# EAGLE library part LMK03318RHSR (library isg-clock-generator)
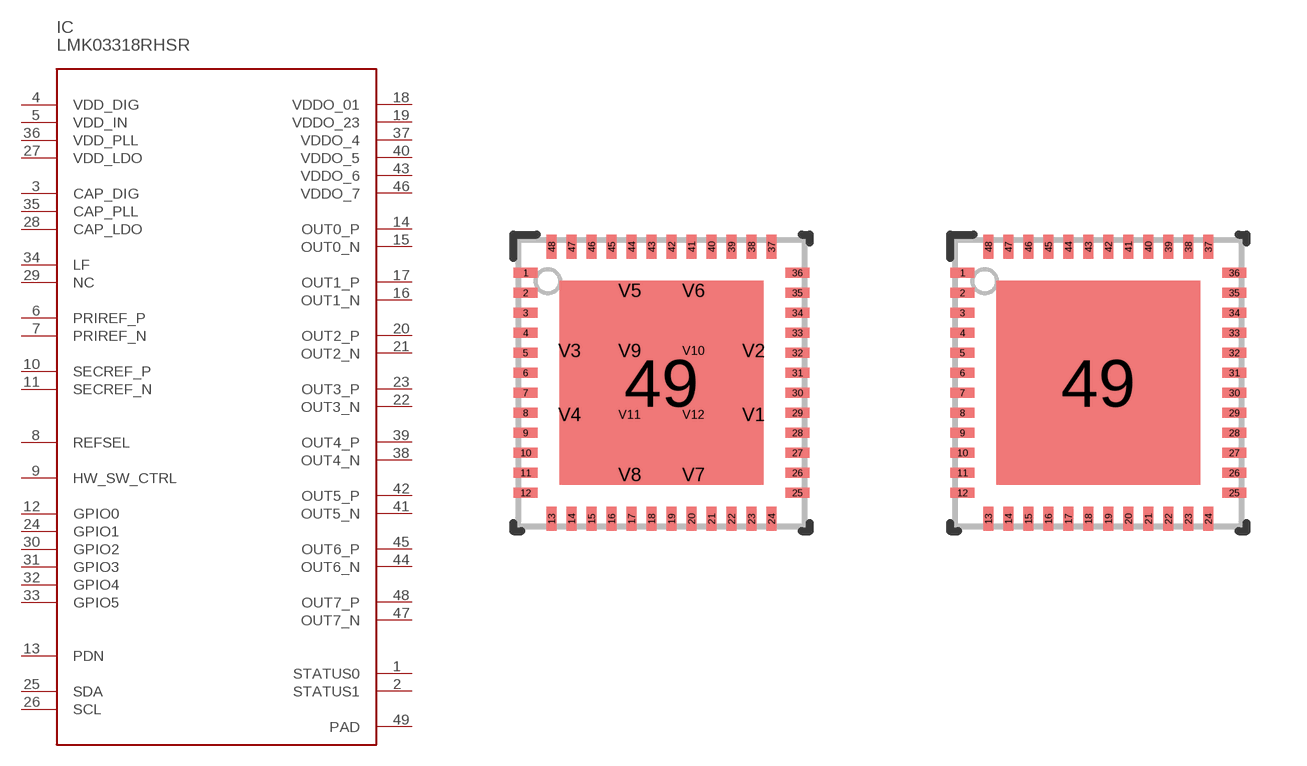
[diagram p0: symbol with the pads of RHS0048A; footprints RHS0048A, RHS0048A_NV]

Designator prefix IC

## LMK03318RHSR  [RHS0048A]
1  STATUS0  out
2  STATUS1  out
3  CAP_DIG  pas
4  VDD_DIG  pwr
5  VDD_IN  pwr
6  PRIREF_P  in
7  PRIREF_N  in
8  REFSEL  in
9  HW_SW_CTRL  in
10  SECREF_P  in
11  SECREF_N  in
12  GPIO0
13  PDN  in
14  OUT0_P  out
15  OUT0_N  out
16  OUT1_N  out
17  OUT1_P  out
18  VDDO_01  pwr
19  VDDO_23  pwr
20  OUT2_P  out
21  OUT2_N  out
22  OUT3_N  out
23  OUT3_P  out
24  GPIO1
25  SDA
26  SCL
27  VDD_LDO  pwr
28  CAP_LDO  pas
29  NC  pas
30  GPIO2
31  GPIO3
32  GPIO4
33  GPIO5
34  LF  pas
35  CAP_PLL  pas
36  VDD_PLL  pwr
37  VDDO_4  pwr
38  OUT4_N  out
39  OUT4_P  out
40  VDDO_5  pwr
41  OUT5_N  out
42  OUT5_P  out
43  VDDO_6  pwr
44  OUT6_N  out
45  OUT6_P  out
46  VDDO_7  pwr
47  OUT7_N  out
48  OUT7_P  out
49  PAD  pwr

## LMK03318RHSRRHS0048A_NV (VALUE: LMK03318RHSR)  [RHS0048A_NV]
Pads as for RHS0048A

## Footprint RHS0048A (pad centres in mm)
smd 0.6 x 0.25: 1 -3.4,2.75; 2 -3.4,2.25; 3 -3.4,1.75; 4 -3.4,1.25; 5 -3.4,0.75; 6 -3.4,0.25; 7 -3.4,-0.25; 8 -3.4,-0.75; 9 -3.4,-1.25; 10 -3.4,-1.75; 11 -3.4,-2.25; 12 -3.4,-2.75; 25 3.4,-2.75; 26 3.4,-2.25; 27 3.4,-1.75; 28 3.4,-1.25; 29 3.4,-0.75; 30 3.4,-0.25; 31 3.4,0.25; 32 3.4,0.75; 33 3.4,1.25; 34 3.4,1.75; 35 3.4,2.25; 36 3.4,2.75
smd 0.25 x 0.6: 13 -2.75,-3.4; 14 -2.25,-3.4; 15 -1.75,-3.4; 16 -1.25,-3.4; 17 -0.75,-3.4; 18 -0.25,-3.4; 19 0.25,-3.4; 20 0.75,-3.4; 21 1.25,-3.4; 22 1.75,-3.4; 23 2.25,-3.4; 24 2.75,-3.4; 37 2.75,3.4; 38 2.25,3.4; 39 1.75,3.4; 40 1.25,3.4; 41 0.75,3.4; 42 0.25,3.4; 43 -0.25,3.4; 44 -0.75,3.4; 45 -1.25,3.4; 46 -1.75,3.4; 47 -2.25,3.4; 48 -2.75,3.4
smd 5.1 x 5.1: 49 0,0
smd 0.5 x 0.5: V1 2.301,-0.799; V2 2.301,0.799; V3 -2.301,0.799; V4 -2.301,-0.799; V5 -0.799,2.301; V6 0.799,2.301; V7 0.799,-2.301; V8 -0.799,-2.301; V9 -0.799,0.799; V10 0.799,0.799; V11 -0.799,-0.799; V12 0.799,-0.799

## Footprint RHS0048A_NV (pad centres in mm)
smd 0.6 x 0.25: 1 -3.4,2.75; 2 -3.4,2.25; 3 -3.4,1.75; 4 -3.4,1.25; 5 -3.4,0.75; 6 -3.4,0.25; 7 -3.4,-0.25; 8 -3.4,-0.75; 9 -3.4,-1.25; 10 -3.4,-1.75; 11 -3.4,-2.25; 12 -3.4,-2.75; 25 3.4,-2.75; 26 3.4,-2.25; 27 3.4,-1.75; 28 3.4,-1.25; 29 3.4,-0.75; 30 3.4,-0.25; 31 3.4,0.25; 32 3.4,0.75; 33 3.4,1.25; 34 3.4,1.75; 35 3.4,2.25; 36 3.4,2.75
smd 0.25 x 0.6: 13 -2.75,-3.4; 14 -2.25,-3.4; 15 -1.75,-3.4; 16 -1.25,-3.4; 17 -0.75,-3.4; 18 -0.25,-3.4; 19 0.25,-3.4; 20 0.75,-3.4; 21 1.25,-3.4; 22 1.75,-3.4; 23 2.25,-3.4; 24 2.75,-3.4; 37 2.75,3.4; 38 2.25,3.4; 39 1.75,3.4; 40 1.25,3.4; 41 0.75,3.4; 42 0.25,3.4; 43 -0.25,3.4; 44 -0.75,3.4; 45 -1.25,3.4; 46 -1.75,3.4; 47 -2.25,3.4; 48 -2.75,3.4
smd 5.1 x 5.1: 49 0,0